# Altium footprint library RES-10K-0805.PcbLib: 1 footprints
Each footprint in its own frame and in the unit in brackets; x right, y up, seen from the top. Pads: shape width x height; smd on the part's side, far side on the other; paste and mask are expansions set on the pad; w line width, h text height; cw(c..) or ccw(c..) is an arc to the next point about the centre after c.
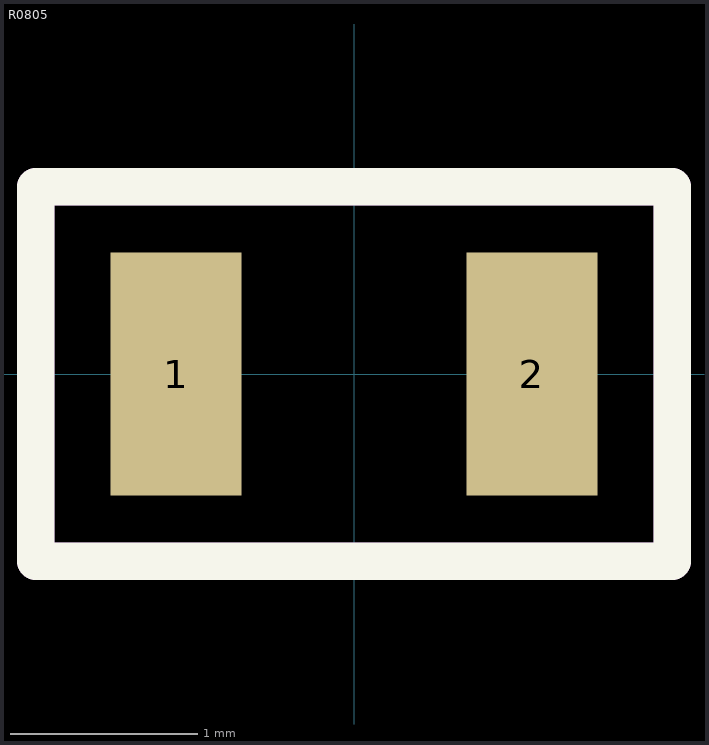
[diagram p0: the footprint, top view; thin cyan lines are the x and y axes]

## R0805 [mm]
pads (2):
  rect 0.7x1.3 smd: 1(-0.95,0) 2(0.95,0)
Top Overlay:
  lines w0.2: -1.7,-1 1.7,-1 1.7,1 -1.7,1 -1.7,-1
Mechanical 29:
  lines w0.2: -1.7,-1 -1.7,1 1.7,1 1.7,-1 -1.7,-1
  text ".Designator" at -0.5,-0.2 h0.6
3D body "RESC2012X70N EIA 0805.step": height 0.71, standoff 0.01, extent -1,-0.6 1,0.6